# EAGLE library part BB_XQFP_065 (library dp_devices)
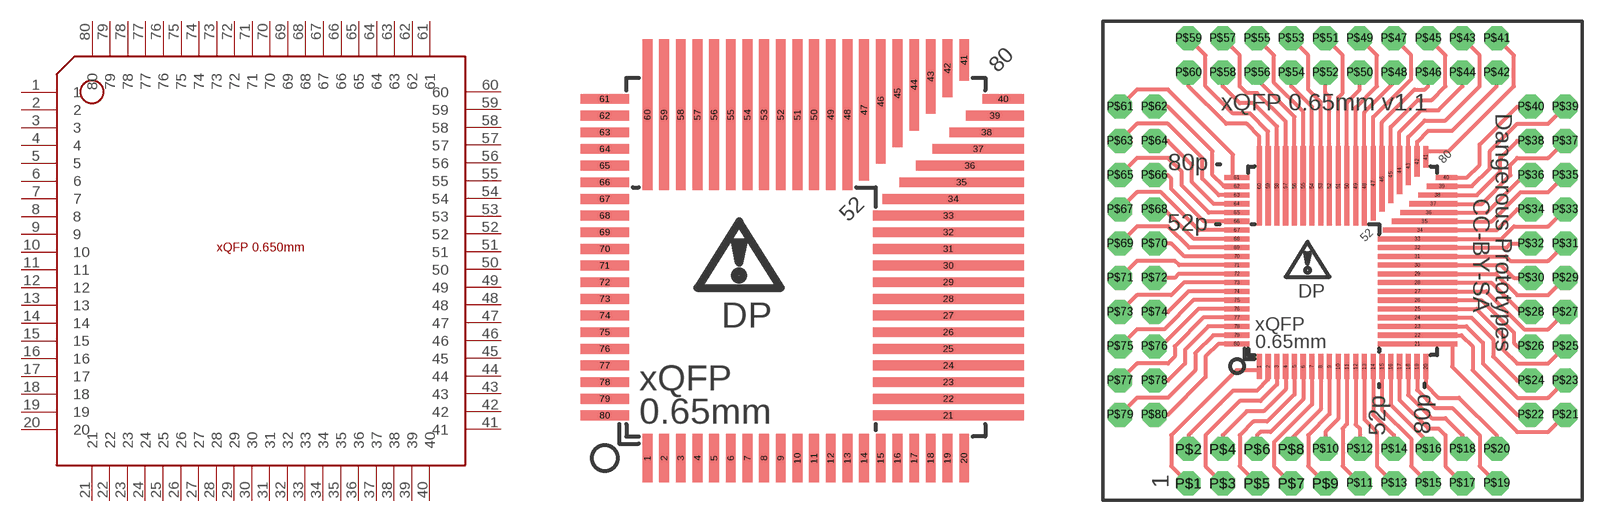
[diagram p123: symbol with the pads of BB_QFP_065; footprints BB_QFP_065, BB_QFP_065_BREAKOUT_BOARD]

Designator prefix -

## BB_XQFP_065  [BB_QFP_065]
1  1
2  2
3  3
4  4
5  5
6  6
7  7
8  8
9  9
10  10
11  11
12  12
13  13
14  14
15  15
16  16
17  17
18  18
19  19
20  20
21  21
22  22
23  23
24  24
25  25
26  26
27  27
28  28
29  29
30  30
31  31
32  32
33  33
34  34
35  35
36  36
37  37
38  38
39  39
40  40
41  41
42  42
43  43
44  44
45  45
46  46
47  47
48  48
49  49
50  50
51  51
52  52
53  53
54  54
55  55
56  56
57  57
58  58
59  59
60  60
61  61
62  62
63  63
64  64
65  65
66  66
67  67
68  68
69  69
70  70
71  71
72  72
73  73
74  74
75  75
76  76
77  77
78  78
79  79
80  80

## BB_XQFP_065BB  [BB_QFP_065_BREAKOUT_BOARD]
P$1  1
P$2  2
P$3  3
P$4  4
P$5  5
P$6  6
P$7  7
P$8  8
P$9  9
P$10  10
P$11  11
P$12  12
P$13  13
P$14  14
P$15  15
P$16  16
P$17  17
P$18  18
P$19  19
P$20  20
P$21  21
P$22  22
P$23  23
P$24  24
P$25  25
P$26  26
P$27  27
P$28  28
P$29  29
P$30  30
P$31  31
P$32  32
P$33  33
P$34  34
P$35  35
P$36  36
P$37  37
P$38  38
P$39  39
P$40  40
P$41  41
P$42  42
P$43  43
P$44  44
P$45  45
P$46  46
P$47  47
P$48  48
P$49  49
P$50  50
P$51  51
P$52  52
P$53  53
P$54  54
P$55  55
P$56  56
P$57  57
P$58  58
P$59  59
P$60  60
P$61  61
P$62  62
P$63  63
P$64  64
P$65  65
P$66  66
P$67  67
P$68  68
P$69  69
P$70  70
P$71  71
P$72  72
P$73  73
P$74  74
P$75  75
P$76  76
P$77  77
P$78  78
P$79  79
P$80  80

## Footprint BB_QFP_065 (pad centres in mm)
QFP 0.65 mm pitch 52p (10mm sq) 80p (14mm sq) CC-BY-SA
smd 0.38 x 1.875: 1 -6.175,-7.838; 2 -5.525,-7.838; 3 -4.875,-7.838; 4 -4.225,-7.838; 5 -3.575,-7.838; 6 -2.925,-7.838; 7 -2.275,-7.838; 8 -1.625,-7.838; 9 -0.975,-7.838; 10 -0.325,-7.838; 11 0.325,-7.838; 12 0.975,-7.838; 13 1.625,-7.838; 14 2.275,-7.838; 15 2.925,-7.838; 16 3.575,-7.838; 17 4.225,-7.838; 18 4.875,-7.838; 19 5.525,-7.838; 20 6.175,-7.838
smd 5.875 x 0.38: 21 5.563,-6.175; 22 5.563,-5.525; 23 5.563,-4.875; 24 5.563,-4.225; 25 5.563,-3.575; 26 5.563,-2.925; 27 5.563,-2.275; 28 5.563,-1.625; 29 5.563,-0.975; 30 5.563,-0.325; 31 5.563,0.325; 32 5.563,0.975; 33 5.563,1.625
smd 5.5 x 0.38: 34 5.75,2.275
smd 4.85 x 0.38: 35 6.075,2.925
smd 4.2 x 0.38: 36 6.4,3.575
smd 3.55 x 0.38: 37 6.725,4.225
smd 2.9 x 0.38: 38 7.05,4.875
smd 2.25 x 0.38: 39 7.375,5.525
smd 1.6 x 0.38: 40 7.7,6.175
smd 0.38 x 1.6: 41 6.175,7.7
smd 0.38 x 2.25: 42 5.525,7.375
smd 0.38 x 2.9: 43 4.875,7.05
smd 0.38 x 3.55: 44 4.225,6.725
smd 0.38 x 4.2: 45 3.575,6.4
smd 0.38 x 4.85: 46 2.925,6.075
smd 0.38 x 5.5: 47 2.275,5.75
smd 0.38 x 5.875: 48 1.625,5.563; 49 0.975,5.563; 50 0.325,5.563; 51 -0.325,5.563; 52 -0.975,5.563; 53 -1.625,5.563; 54 -2.275,5.563; 55 -2.925,5.563; 56 -3.575,5.563; 57 -4.225,5.563; 58 -4.875,5.563; 59 -5.525,5.563; 60 -6.175,5.563
smd 1.875 x 0.38: 61 -7.838,6.175; 62 -7.838,5.525; 63 -7.838,4.875; 64 -7.838,4.225; 65 -7.838,3.575; 66 -7.838,2.925; 67 -7.838,2.275; 68 -7.838,1.625; 69 -7.838,0.975; 70 -7.838,0.325; 71 -7.838,-0.325; 72 -7.838,-0.975; 73 -7.838,-1.625; 74 -7.838,-2.275; 75 -7.838,-2.925; 76 -7.838,-3.575; 77 -7.838,-4.225; 78 -7.838,-4.875; 79 -7.838,-5.525; 80 -7.838,-6.175

## Footprint BB_QFP_065_BREAKOUT_BOARD (pad centres in mm)
QFP 0.65 mm pitch 52p (10mm sq) 80p (14mm sq) CC-BY-SA
smd 0.38 x 1.875: 1 -6.175,-7.838; 2 -5.525,-7.838; 3 -4.875,-7.838; 4 -4.225,-7.838; 5 -3.575,-7.838; 6 -2.925,-7.838; 7 -2.275,-7.838; 8 -1.625,-7.838; 9 -0.975,-7.838; 10 -0.325,-7.838; 11 0.325,-7.838; 12 0.975,-7.838; 13 1.625,-7.838; 14 2.275,-7.838; 15 2.925,-7.838; 16 3.575,-7.838; 17 4.225,-7.838; 18 4.875,-7.838; 19 5.525,-7.838; 20 6.175,-7.838
smd 5.875 x 0.38: 21 5.563,-6.175; 22 5.563,-5.525; 23 5.563,-4.875; 24 5.563,-4.225; 25 5.563,-3.575; 26 5.563,-2.925; 27 5.563,-2.275; 28 5.563,-1.625; 29 5.563,-0.975; 30 5.563,-0.325; 31 5.563,0.325; 32 5.563,0.975; 33 5.563,1.625
smd 5.5 x 0.38: 34 5.75,2.275
smd 4.85 x 0.38: 35 6.075,2.925
smd 4.2 x 0.38: 36 6.4,3.575
smd 3.55 x 0.38: 37 6.725,4.225
smd 2.9 x 0.38: 38 7.05,4.875
smd 2.25 x 0.38: 39 7.375,5.525
smd 1.6 x 0.38: 40 7.7,6.175
smd 0.38 x 1.6: 41 6.175,7.7
smd 0.38 x 2.25: 42 5.525,7.375
smd 0.38 x 2.9: 43 4.875,7.05
smd 0.38 x 3.55: 44 4.225,6.725
smd 0.38 x 4.2: 45 3.575,6.4
smd 0.38 x 4.85: 46 2.925,6.075
smd 0.38 x 5.5: 47 2.275,5.75
smd 0.38 x 5.875: 48 1.625,5.563; 49 0.975,5.563; 50 0.325,5.563; 51 -0.325,5.563; 52 -0.975,5.563; 53 -1.625,5.563; 54 -2.275,5.563; 55 -2.925,5.563; 56 -3.575,5.563; 57 -4.225,5.563; 58 -4.875,5.563; 59 -5.525,5.563; 60 -6.175,5.563
smd 1.875 x 0.38: 61 -7.838,6.175; 62 -7.838,5.525; 63 -7.838,4.875; 64 -7.838,4.225; 65 -7.838,3.575; 66 -7.838,2.925; 67 -7.838,2.275; 68 -7.838,1.625; 69 -7.838,0.975; 70 -7.838,0.325; 71 -7.838,-0.325; 72 -7.838,-0.975; 73 -7.838,-1.625; 74 -7.838,-2.275; 75 -7.838,-2.925; 76 -7.838,-3.575; 77 -7.838,-4.225; 78 -7.838,-4.875; 79 -7.838,-5.525; 80 -7.838,-6.175
drill 1.016 pad 1.778 octagon: P$1 -11.43,-16.51; P$2 -11.43,-13.97; P$3 -8.89,-16.51; P$4 -8.89,-13.97; P$5 -6.35,-16.51; P$6 -6.35,-13.97; P$7 -3.81,-16.51; P$8 -3.81,-13.97; P$9 -1.27,-16.51; P$10 -1.27,-13.97; P$11 1.27,-16.51; P$12 1.27,-13.97; P$13 3.81,-16.51; P$14 3.81,-13.97; P$15 6.35,-16.51; P$16 6.35,-13.97; P$17 8.89,-16.51; P$18 8.89,-13.97; P$19 11.43,-16.51; P$20 11.43,-13.97; P$21 16.51,-11.43; P$22 13.97,-11.43; P$23 16.51,-8.89; P$24 13.97,-8.89; P$25 16.51,-6.35; P$26 13.97,-6.35; P$27 16.51,-3.81; P$28 13.97,-3.81; P$29 16.51,-1.27; P$30 13.97,-1.27; P$31 16.51,1.27; P$32 13.97,1.27; P$33 16.51,3.81; P$34 13.97,3.81; P$35 16.51,6.35; P$36 13.97,6.35; P$37 16.51,8.89; P$38 13.97,8.89; P$39 16.51,11.43; P$40 13.97,11.43; P$41 11.43,16.51; P$42 11.43,13.97; P$43 8.89,16.51; P$44 8.89,13.97; P$45 6.35,16.51; P$46 6.35,13.97; P$47 3.81,16.51; P$48 3.81,13.97; P$49 1.27,16.51; P$50 1.27,13.97; P$51 -1.27,16.51; P$52 -1.27,13.97; P$53 -3.81,16.51; P$54 -3.81,13.97; P$55 -6.35,16.51; P$56 -6.35,13.97; P$57 -8.89,16.51; P$58 -8.89,13.97; P$59 -11.43,16.51; P$60 -11.43,13.97; P$61 -16.51,11.43; P$62 -13.97,11.43; P$63 -16.51,8.89; P$64 -13.97,8.89; P$65 -16.51,6.35; P$66 -13.97,6.35; P$67 -16.51,3.81; P$68 -13.97,3.81; P$69 -16.51,1.27; P$70 -13.97,1.27; P$71 -16.51,-1.27; P$72 -13.97,-1.27; P$73 -16.51,-3.81; P$74 -13.97,-3.81; P$75 -16.51,-6.35; P$76 -13.97,-6.35; P$77 -16.51,-8.89; P$78 -13.97,-8.89; P$79 -16.51,-11.43; P$80 -13.97,-11.43